# Altium schematic symbol library SI8040AA-B-IUR.SchLib: 1 symbol
Pins are listed as number, name and electrical type; pins without a type are passive.

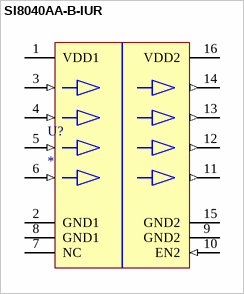
[diagram p0: symbol SI8040AA-B-IUR]

## SI8040AA-B-IUR
designator U?
pins: 1 VDD1 (power), 2 GND1 (power), 3 A1 (in), 4 A2 (in), 5 A3 (in), 6 A4 (in), 7 NC, 8 GND1 (power), 9 GND2 (power), 10 EN2 (in), 11 B4 (out), 12 B3 (out), 13 B2 (out), 14 B1 (out), 15 GND2 (power), 16 VDD2 (power)